# Altium footprint library KX-327S.PcbLib: 1 footprints
Each footprint in its own frame and in the unit in brackets; x right, y up, seen from the top. Pads: shape width x height; smd on the part's side, far side on the other; paste and mask are expansions set on the pad; w line width, h text height; cw(c..) or ccw(c..) is an arc to the next point about the centre after c.
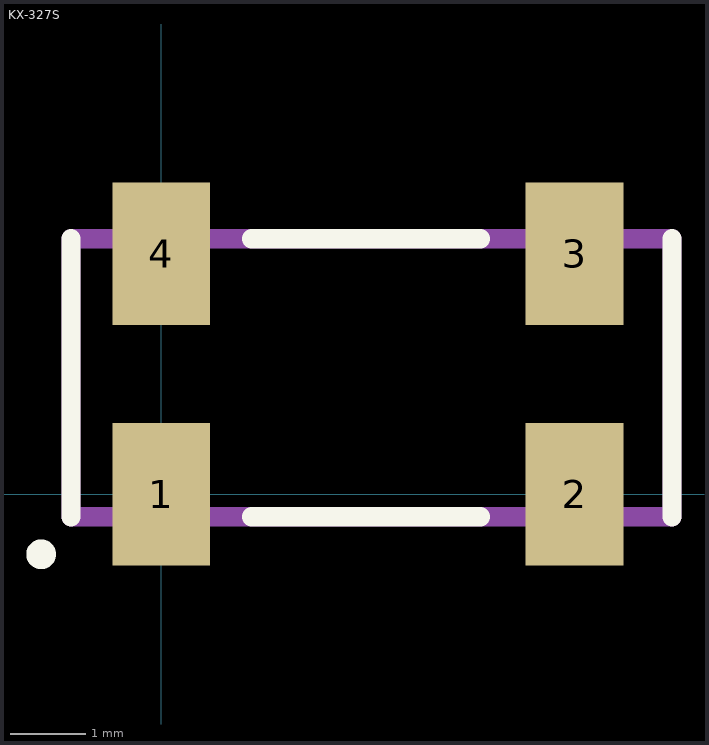
[diagram p0: the footprint, top view; thin cyan lines are the x and y axes]

## KX-327S [mm]
pads (4):
  rect 1.3x1.9 smd: 1(0,0) 2(5.5,0) 3(5.5,3.2) 4(0,3.2)
Top Overlay:
  circle w0.254: c-1.6,-0.8 r0.071
  lines w0.254: -1.2,-0.3 -1.2,3.4 ; 1.2,-0.3 4.25,-0.3 ; 1.2,3.4 4.25,3.4 ; 6.8,-0.3 6.8,3.4
TopAssy:
  lines w0.254: -1.2,-0.3 6.8,-0.3 6.8,3.4 -1.2,3.4 -1.2,-0.3
3D body "User Library-KX-327S.step": height 2.5, standoff 0, extent -1.2,-0.3 6.8,3.4